# Altium footprint library ESP32-S3-WROOM-1-N16R8.PcbLib: 1 footprints
Each footprint in its own frame and in the unit in brackets; x right, y up, seen from the top. Pads: shape width x height; smd on the part's side, far side on the other; paste and mask are expansions set on the pad; w line width, h text height; cw(c..) or ccw(c..) is an arc to the next point about the centre after c.
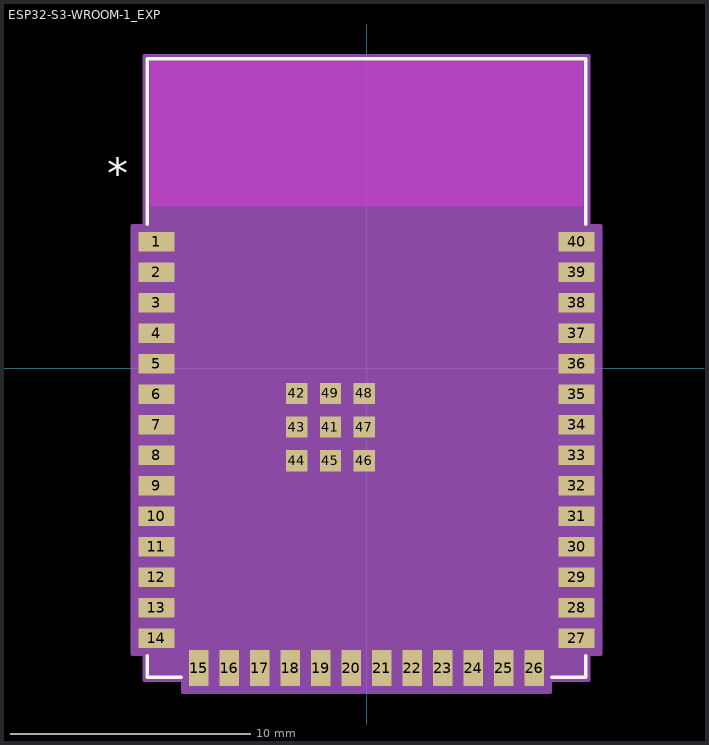
[diagram p0: the footprint, top view; thin cyan lines are the x and y axes]

## ESP32-S3-WROOM-1_EXP [mil]
pads (49):
  rect 59x32 smd paste+0 mask+0: 1(-344.49,207.09) 2(-344.49,157.09) 3(-344.49,107.09) 4(-344.49,57.09) 5(-344.49,7.09) 6(-344.49,-42.91) 7(-344.49,-92.91) 8(-344.49,-142.91) 9(-344.49,-192.91) 10(-344.49,-242.91) 11(-344.49,-292.91) 12(-344.49,-342.91) 13(-344.49,-392.91) 14(-344.49,-442.91) 27(344.49,-442.91) 28(344.49,-392.91) 29(344.49,-342.91) 30(344.49,-292.91) 31(344.49,-242.91) 32(344.49,-192.91) 33(344.49,-142.91) 34(344.49,-92.91) 35(344.49,-42.91) 36(344.49,7.09) 37(344.49,57.09) 38(344.49,107.09) 39(344.49,157.09) 40(344.49,207.09)
  rect 32x59 smd paste+0 mask+0: 15(-275,-492.13) 16(-225,-492.13) 17(-175,-492.13) 18(-125,-492.13) 19(-75,-492.13) 20(-25,-492.13) 21(25,-492.13) 22(75,-492.13) 23(125,-492.13) 24(175,-492.13) 25(225,-492.13) 26(275,-492.13)
  rect 35x35 smd paste+0 mask+0: 41(-59.06,-96.85) 42(-114.17,-41.73) 43(-114.17,-96.85) 44(-114.17,-151.97) 45(-59.06,-151.97) 46(-3.94,-151.97) 47(-3.94,-96.85) 48(-3.94,-41.73) 49(-59.06,-41.73)
Top Layer keep-out:
  region: 354.5,502 -354.5,502 -354.5,266 354.5,266
Top Overlay:
  lines w6: -359.5,-472.01 -359.5,-507 -304.1,-507 ; -359.5,236.19 -359.5,507 359.5,507 359.5,236.19 ; 304.1,-507 359.5,-507 359.5,-472.01
  text "*" at -425,295 h50
Mechanical 13:
  lines w1: -354.5,452 -304.5,502 ; -354.5,-502 -354.5,502 354.5,502 354.5,-502 -354.5,-502
  text "*" at -302.49,182.09 h50
Mechanical 15:
  region: 383.99,233.09 364.5,233.09 364.5,512 -364.5,512 -364.5,233.09 -383.99,233.09 -383.99,-468.91 -364.5,-468.91 -364.5,-512 -301,-512 -301,-531.63 301,-531.63 301,-512 364.5,-512 364.5,-468.91 383.99,-468.91
  lines w6: -383.99,-468.91 -364.5,-468.91 -364.5,-512 -301,-512 -301,-531.63 301,-531.63 301,-512 364.5,-512 364.5,-468.91 383.99,-468.91 383.99,233.09 364.5,233.09 364.5,512 -364.5,512 -364.5,233.09 -383.99,233.09 -383.99,-468.91